# Altium schematic symbol library CAN_Transceivers.SchLib: 1 symbol
Pins are listed as number, name and electrical type; pins without a type are passive.

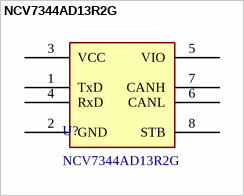
[diagram p0: symbol NCV7344AD13R2G]

## NCV7344AD13R2G
designator U?
IC TRANSCEIVER HALF 1/1 8SOIC; Supplier 1: Digi-Key; Supplier Part Number 1: 488-NCV7344AD13R2GCT-ND
footprint SOIC127P600X175-8N (SOIC, 8-Leads, Body 4.90x3.90mm, Pitch 1.27mm, IPC Medium Density)
pins: 1 TxD, 2 GND, 3 VCC, 4 RxD, 5 VIO, 6 CANL, 7 CANH, 8 STB